# Altium schematic symbol library 2019-04-01_16-00-31.SchLib: 2 symbols
Pins are listed as number, name and electrical type; pins without a type are passive.

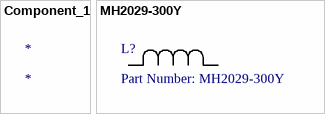
[diagram p0: symbols Component_1 to MH2029-300Y]

## Component_1
designator *

## MH2029-300Y
designator L?, comment Part Number: MH2029-300Y
No Description Available; Vendor: Bourns Electronics; Built_By: EMA_UL_Team; Type: DEV; Manufacturer_Part_Number: MH2029-300Y; Copyright: Copyright (C) 2018 Accelerated Designs. All rights reserved; RefDes: RefDes; Value: Value
footprint IND_BOURNS_MH202
pins: 1, 2